# Altium footprint library GuitarLibrary.PcbLib: 30 footprints (part 2 of 2)
Each footprint in its own frame and in the unit in brackets; x right, y up, seen from the top. Pads: shape width x height; smd on the part's side, far side on the other; paste and mask are expansions set on the pad; w line width, h text height; cw(c..) or ccw(c..) is an arc to the next point about the centre after c.
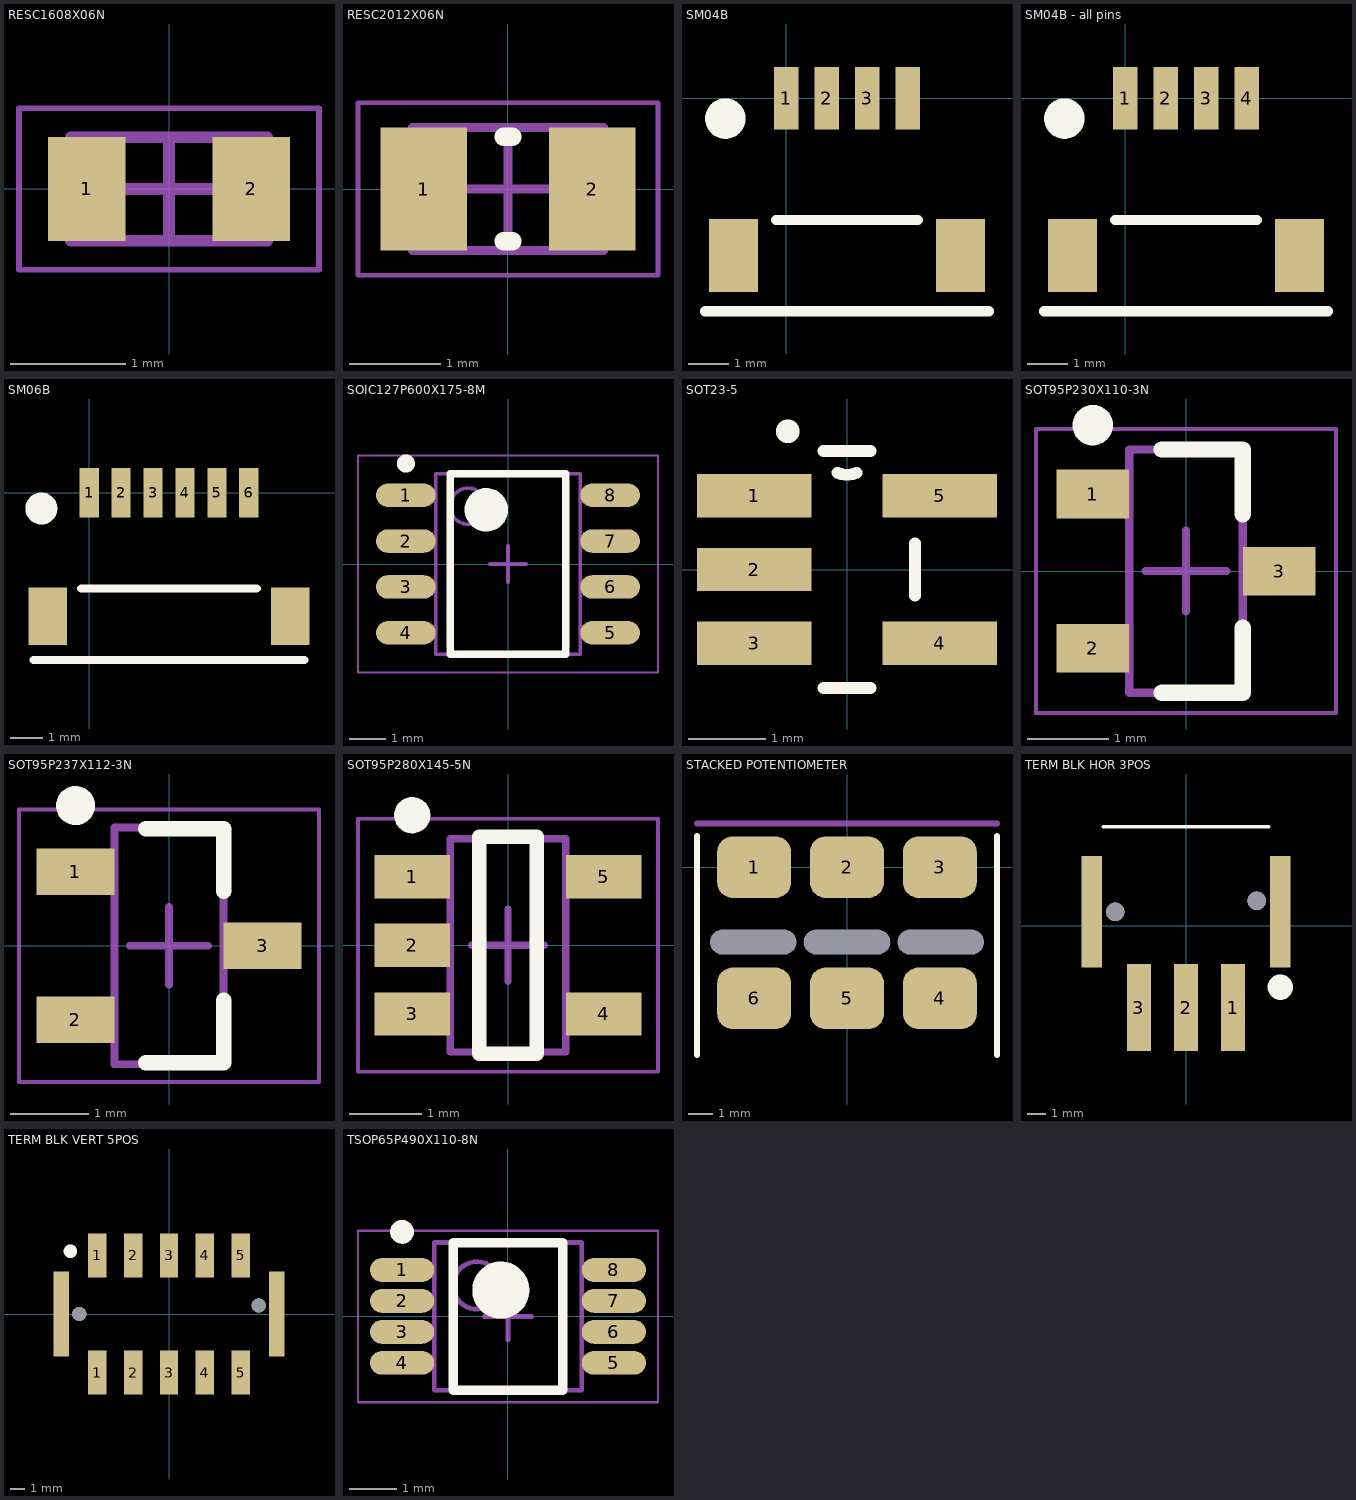
[diagram p1: the footprints below, top view; thin cyan lines are the x and y axes]

## RESC1608X06N [mm] "Chip Resistor, 2-Leads, Body 1.60x0.80mm, IPC Medium Density"
height 0.55
pads (2):
  rect 0.67x0.9 smd: 1(-0.713,0) 2(0.713,0)
Mechanical 13:
  lines w0.1: -0.85,-0.45 -0.85,0.45 0.85,0.45 0.85,-0.45 -0.85,-0.45
Mechanical 15:
  lines w0.05: -1.3,-0.7 -1.3,0.7 1.3,0.7 1.3,-0.7 -1.3,-0.7
  lines w0.1: -0.45,0 0.45,0 ; 0,-0.45 0,0.45
3D body: height 0.55, standoff 0, extent -0.6,-0.45 0.6,0.45
3D body: height 0.55, standoff 0, extent -0.85,-0.45 -0.6,0.45
3D body: height 0.55, standoff 0, extent 0.6,-0.45 0.85,0.45

## RESC2012X06N [mm] "Chip Resistor, 2-Leads, Body 2.00x1.25mm, IPC Medium Density"
height 0.6
pads (2):
  rect 0.95x1.35 smd: 1(-0.925,0) 2(0.925,0)
Top Overlay:
  lines w0.2: -0.05,-0.575 0.05,-0.575 ; -0.05,0.575 0.05,0.575
Mechanical 13:
  lines w0.1: -1.05,-0.675 1.05,-0.675 1.05,0.675 -1.05,0.675 -1.05,-0.675
Mechanical 15:
  lines w0.05: -1.65,-0.95 1.65,-0.95 1.65,0.95 -1.65,0.95 -1.65,-0.95
  lines w0.1: -0.5,0 0.5,0 ; 0,-0.5 0,0.5
3D body: height 0.6, standoff 0, extent 0.75,-0.675 1.05,0.675
3D body: height 0.6, standoff 0, extent -1.05,-0.675 -0.75,0.675
3D body: height 0.6, standoff 0, extent -0.75,-0.675 0.75,0.675

## SM04B [mm] "JST 4 POS 1MM"
pads (6):
  rect 0.6x1.55 smd: 1(0,0) 2(1,0) 3(2,0) ""(3,0)
  rect 1.2x1.8 smd: ""(-1.3,-3.875) ""(4.3,-3.875)
Top Overlay:
  circle w0.5: c-1.5,-0.5 r0.25
  lines w0.254: -2,-5.25 5,-5.25 ; -0.25,-3 3.25,-3
3D body "SM04B-SRSS-TB.STEP": height 2.96, standoff 0, extent -1.5,-4.695 4.5,0.255

## SM04B - all pins [mm] "JST 4 POS 1MM"
pads (6):
  rect 0.6x1.55 smd: 1(0,0) 2(1,0) 3(2,0) 4(3,0)
  rect 1.2x1.8 smd: ""(-1.3,-3.875) ""(4.3,-3.875)
Top Overlay:
  circle w0.5: c-1.5,-0.5 r0.25
  lines w0.254: -2,-5.25 5,-5.25 ; -0.25,-3 3.25,-3
3D body "SM04B-SRSS-TB.STEP": height 2.96, standoff 0, extent -1.5,-4.695 4.5,0.255

## SM06B [mm] "JST 6 POS 1MM"
pads (8):
  rect 0.6x1.55 smd: 1(0,0) 2(1,0) 3(2,0) 4(3,0) 5(4,0) 6(5,0)
  rect 1.2x1.8 smd: ""(-1.3,-3.875) ""(6.3,-3.875)
Top Overlay:
  circle w0.5: c-1.5,-0.5 r0.25
  lines w0.254: -1.75,-5.25 6.75,-5.25 ; -0.25,-3 5.25,-3
3D body "SM06B-SRSS-TB.STEP": height 2.96, standoff 0, extent -1.5,-4.725 6.5,0.225

## SOIC127P600X175-8M [mm] "SOIC, 8-Leads, Body 4.90x3.90mm, Pitch 1.27mm, IPC Low Density"
height 1.75
pads (8):
  oval 1.65x0.65 smd: 1(-2.825,1.905) 2(-2.825,0.635) 3(-2.825,-0.635) 4(-2.825,-1.905) 5(2.825,-1.905) 6(2.825,-0.635) 7(2.825,0.635) 8(2.825,1.905)
Top Overlay:
  circle w0.6: c-0.6,1.5 r0.3
  circle w0.25: c-2.825,2.78 r0.125
  lines w0.2: -1.6,-2.5 1.6,-2.5 1.6,2.5 -1.6,2.5 -1.6,-2.5
Mechanical 13:
  circle w0.1: c-1.1,1.6 r0.5
  lines w0.1: -2,-2.5 2,-2.5 2,2.5 -2,2.5 -2,-2.5
Mechanical 15:
  lines w0.05: -4.15,-3 4.15,-3 4.15,3 -4.15,3 -4.15,-3
  lines w0.1: -0.5,0 0.5,0 ; 0,-0.5 0,0.5
3D body "SOIC127P600X175-8M.step": height 1.75, standoff 0, extent -3,-2.5 3,2.5

## SOT23-5 [mil]
pads (5):
  rect 58x22 smd: 1(-47,37.4) 2(-47,0) 3(-47,-37.4) 4(47,-37.4) 5(47,37.4)
Top Overlay:
  lines w6: -11.91,-60 11.91,-60 ; -11.91,60 11.91,60 ; -4.92,49.05 ccw(c0,60) 4.92,49.05 ; 34.5,-13.3 34.5,13.3
  lines w10: -29.05,69.68 cw(c-30,70) -29,70
3D body "DBV5.stp": height 57.01, standoff 0, extent -59,-60 59,60

## SOT95P230X110-3N [mm] "SOT23, 3-Leads, Body 2.90x2.30mm, Pitch 0.95mm, IPC Medium Density"
height 1.1
pads (3):
  rect 0.9x0.6 smd: 1(-1.15,0.95) 2(-1.15,-0.95) 3(1.15,0)
Top Overlay:
  circle w0.25: c-1.15,1.8 r0.125
  lines w0.2: -0.3,-1.5 0.7,-1.5 0.7,-0.7 ; -0.3,1.5 0.7,1.5 0.7,0.7
Mechanical 13:
  lines w0.1: -0.7,-1.5 0.7,-1.5 0.7,1.5 -0.7,1.5 -0.7,-1.5
Mechanical 15:
  lines w0.05: -1.85,-1.75 1.85,-1.75 1.85,1.75 -1.85,1.75 -1.85,-1.75
  lines w0.1: -0.5,0 0.5,0 ; 0,-0.5 0,0.5
3D body: height 1.1, standoff 0.1, extent -0.7,-1.5 0.7,1.5

## SOT95P237X112-3N [mm] "SOT23, 3-Leads, Body 2.92x2.37mm, Pitch 0.95mm, IPC Medium Density"
height 1.12
pads (3):
  rect 1x0.6 smd: 1(-1.2,0.95) 2(-1.2,-0.95) 3(1.2,0)
Top Overlay:
  circle w0.25: c-1.2,1.8 r0.125
  lines w0.2: -0.3,-1.5 0.7,-1.5 0.7,-0.7 ; -0.3,1.5 0.7,1.5 0.7,0.7
Mechanical 13:
  lines w0.1: -0.7,-1.52 0.7,-1.52 0.7,1.52 -0.7,1.52 -0.7,-1.52
Mechanical 15:
  lines w0.05: -1.925,-1.75 1.925,-1.75 1.925,1.75 -1.925,1.75 -1.925,-1.75
  lines w0.1: -0.5,0 0.5,0 ; 0,-0.5 0,0.5
3D body "SOT95P237X112-3N.step": height 1.12, standoff 0, extent -1.32,-1.52 1.32,1.52

## SOT95P280X145-5N [mm] "SOT23, 5-Leads, Body 2.95x2.80mm, Pitch 0.95mm, IPC Medium Density"
height 1.45
pads (5):
  rect 1.05x0.6 smd: 1(-1.325,0.95) 2(-1.325,0) 3(-1.325,-0.95) 4(1.325,-0.95) 5(1.325,0.95)
Top Overlay:
  circle w0.25: c-1.325,1.8 r0.125
  lines w0.2: -0.4,-1.5 0.4,-1.5 0.4,1.5 -0.4,1.5 -0.4,-1.5
Mechanical 13:
  lines w0.1: -0.8,-1.475 -0.8,1.475 0.8,1.475 0.8,-1.475 -0.8,-1.475
Mechanical 15:
  lines w0.05: -2.075,-1.75 -2.075,1.75 2.075,1.75 2.075,-1.75 -2.075,-1.75
  lines w0.1: -0.5,0 0.5,0 ; 0,-0.5 0,0.5
3D body "SOT95P280X145-5N.step": height 1.45, standoff 0, extent -1.4,-1.475 1.4,1.475

## STACKED POTENTIOMETER [mm] "Stacked Potentiometer"
pads (9):
  rrect50% 3x2.5 smd: 1(-3.775,0) 2(0,0) 3(3.775,0) 4(3.775,-5.334) 5(0,-5.334) 6(-3.775,-5.334)
  round 0 hole 1 slot 3.5 at 0 deg unplated: ""(-3.81,-3.048) ""(0,-3.048) ""(3.81,-3.048)
Top Overlay:
  lines w0.254: -6.096,-7.62 -6.096,1.27 ; 6.096,-7.62 6.096,1.27
Mechanical 13:
  lines w0.254: -6.096,1.778 6.096,1.778

## TERM BLK HOR 3POS [mm] "3 Position Wire to Board Terminal Block Horizontal with Board 0.100\" (2.54mm) Surface Mount"
pads (7):
  rect 1.3x4.7 smd: 1(2.54,-4.4) 2(0,-4.4) 3(-2.54,-4.4)
  rect 1.1x6 smd: ""(-5.08,0.75) ""(5.08,0.75)
  round 1 hole 1 mask+0: ""(-3.81,0.75) ""(3.81,1.35)
Top Overlay:
  circle w1: c5.08,-3.302 r0.18
  lines w0.2: -4.445,5.334 4.445,5.334
3D body "14010313102000_100540057MOD000A.STP": height 4.95, standoff -0.95, extent -6.155,-6.216 6.155,5.334

## TERM BLK VERT 5POS [mm] "5 Position Wire to Board Terminal Block Vertical with Board 0.100\" (2.54mm) Surface Mount"
pads (14):
  rect 1.3x3.1 smd: 1(-5.08,-4.15) 1(-5.08,4.15) 2(-2.54,-4.15) 2(-2.54,4.15) 3(0,-4.15) 3(0,4.15) 4(2.54,-4.15) 4(2.54,4.15) 5(5.08,-4.15) 5(5.08,4.15)
  rect 1.1x6 smd: ""(-7.62,0) ""(7.62,0)
  round 1 hole 1 unplated mask+0: ""(-6.35,0) ""(6.35,0.6)
Top Overlay:
  circle w0.7: c-6.985,4.445 r0.127
3D body "14010513101000_100548419MOD000B.STP": height 9.59, standoff -0.61, extent -8.695,-5.21 8.695,5.21
3D body: height 8.83, standoff 2.23, extent 0,0 0,0

## TSOP65P490X110-8N [mm] "TSOP, 8-Leads, Body 3.00x3.00mm, Pitch 0.65mm, IPC Medium Density"
height 1.1
pads (8):
  oval 1.35x0.5 smd: 1(-2.225,0.975) 2(-2.225,0.325) 3(-2.225,-0.325) 4(-2.225,-0.975) 5(2.225,-0.975) 6(2.225,-0.325) 7(2.225,0.325) 8(2.225,0.975)
Top Overlay:
  circle w0.25: c-2.225,1.775 r0.125
  circle w0.6: c-0.15,0.55 r0.3
  lines w0.2: -1.15,-1.55 -1.15,1.55 1.15,1.55 1.15,-1.55 -1.15,-1.55
Mechanical 13:
  circle w0.1: c-0.65,0.65 r0.5
  lines w0.1: -1.55,-1.55 -1.55,1.55 1.55,1.55 1.55,-1.55 -1.55,-1.55
Mechanical 15:
  lines w0.05: -3.15,-1.8 -3.15,1.8 3.15,1.8 3.15,-1.8 -3.15,-1.8
  lines w0.1: -0.5,0 0.5,0 ; 0,-0.5 0,0.5
3D body "TSOP65P490X110-8N.step": height 1.1, standoff 0, extent -2.45,-1.55 2.45,1.55